# Altium footprint library QFN50P500X500X100-29N-D.PcbLib: 1 footprints
Each footprint in its own frame and in the unit in brackets; x right, y up, seen from the top. Pads: shape width x height; smd on the part's side, far side on the other; paste and mask are expansions set on the pad; w line width, h text height; cw(c..) or ccw(c..) is an arc to the next point about the centre after c.
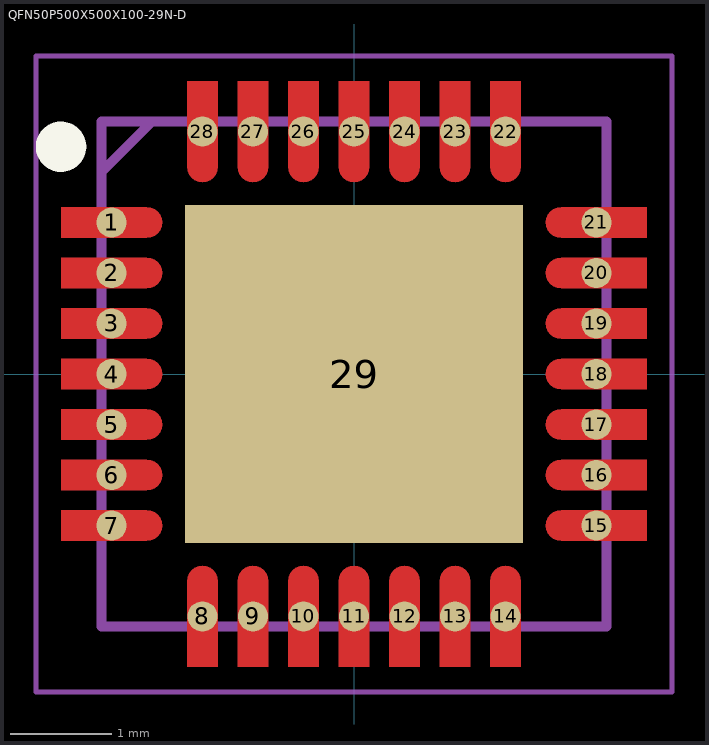
[diagram p0: the footprint, top view; thin cyan lines are the x and y axes]

## QFN50P500X500X100-29N-D [mm]
pads (29):
  round 0.3 smd: 1(-2.4,1.5) 2(-2.4,1) 3(-2.4,0.5) 4(-2.4,0) 5(-2.4,-0.5) 6(-2.4,-1) 7(-2.4,-1.5) 8(-1.5,-2.4) 9(-1,-2.4) 10(-0.5,-2.4) 11(0,-2.4) 12(0.5,-2.4) 13(1,-2.4) 14(1.5,-2.4) 15(2.4,-1.5) 16(2.4,-1) 17(2.4,-0.5) 18(2.4,0) 19(2.4,0.5) 20(2.4,1) 21(2.4,1.5) 22(1.5,2.4) 23(1,2.4) 24(0.5,2.4) 25(0,2.4) 26(-0.5,2.4) 27(-1,2.4) 28(-1.5,2.4)
  rrect0% 3.35x3.35 smd: 29(0,0)
Top Layer:
  region: -1.35,2.9 -1.349,2.05 -1.354,2.011 -1.369,1.974 -1.393,1.943 -1.424,1.919 -1.461,1.904 -1.5,1.899 -1.539,1.904 -1.576,1.919 -1.607,1.943 -1.631,1.974 -1.646,2.011 -1.651,2.05 -1.65,2.05 -1.65,2.9
  region: -0.85,2.9 -0.849,2.05 -0.854,2.011 -0.869,1.974 -0.893,1.943 -0.924,1.919 -0.961,1.904 -1,1.899 -1.039,1.904 -1.076,1.919 -1.107,1.943 -1.131,1.974 -1.146,2.011 -1.151,2.05 -1.15,2.05 -1.15,2.9
  region: -0.35,2.9 -0.349,2.05 -0.354,2.011 -0.369,1.974 -0.393,1.943 -0.424,1.919 -0.461,1.904 -0.5,1.899 -0.539,1.904 -0.576,1.919 -0.607,1.943 -0.631,1.974 -0.646,2.011 -0.651,2.05 -0.65,2.05 -0.65,2.9
  region: 0.15,2.9 0.151,2.05 0.146,2.011 0.131,1.974 0.107,1.943 0.076,1.919 0.039,1.904 0,1.899 -0.039,1.904 -0.076,1.919 -0.107,1.943 -0.131,1.974 -0.146,2.011 -0.151,2.05 -0.15,2.05 -0.15,2.9
  region: 0.65,2.9 0.651,2.05 0.646,2.011 0.631,1.974 0.607,1.943 0.576,1.919 0.539,1.904 0.5,1.899 0.461,1.904 0.424,1.919 0.393,1.943 0.369,1.974 0.354,2.011 0.349,2.05 0.35,2.05 0.35,2.9
  region: 1.15,2.9 1.151,2.05 1.146,2.011 1.131,1.974 1.107,1.943 1.076,1.919 1.039,1.904 1,1.899 0.961,1.904 0.924,1.919 0.893,1.943 0.869,1.974 0.854,2.011 0.849,2.05 0.85,2.05 0.85,2.9
  region: 1.65,2.9 1.651,2.05 1.646,2.011 1.631,1.974 1.607,1.943 1.576,1.919 1.539,1.904 1.5,1.899 1.461,1.904 1.424,1.919 1.393,1.943 1.369,1.974 1.354,2.011 1.349,2.05 1.35,2.05 1.35,2.9
  region: 2.9,1.35 2.05,1.349 2.011,1.354 1.974,1.369 1.943,1.393 1.919,1.424 1.904,1.461 1.899,1.5 1.904,1.539 1.919,1.576 1.943,1.607 1.974,1.631 2.011,1.646 2.05,1.651 2.05,1.65 2.9,1.65
  region: 2.9,0.85 2.05,0.849 2.011,0.854 1.974,0.869 1.943,0.893 1.919,0.924 1.904,0.961 1.899,1 1.904,1.039 1.919,1.076 1.943,1.107 1.974,1.131 2.011,1.146 2.05,1.151 2.05,1.15 2.9,1.15
  region: 2.9,0.35 2.05,0.349 2.011,0.354 1.974,0.369 1.943,0.393 1.919,0.424 1.904,0.461 1.899,0.5 1.904,0.539 1.919,0.576 1.943,0.607 1.974,0.631 2.011,0.646 2.05,0.651 2.05,0.65 2.9,0.65
  region: 2.9,-0.15 2.05,-0.151 2.011,-0.146 1.974,-0.131 1.943,-0.107 1.919,-0.076 1.904,-0.039 1.899,0 1.904,0.039 1.919,0.076 1.943,0.107 1.974,0.131 2.011,0.146 2.05,0.151 2.05,0.15 2.9,0.15
  region: 2.9,-0.65 2.05,-0.651 2.011,-0.646 1.974,-0.631 1.943,-0.607 1.919,-0.576 1.904,-0.539 1.899,-0.5 1.904,-0.461 1.919,-0.424 1.943,-0.393 1.974,-0.369 2.011,-0.354 2.05,-0.349 2.05,-0.35 2.9,-0.35
  region: 2.9,-1.15 2.05,-1.151 2.011,-1.146 1.974,-1.131 1.943,-1.107 1.919,-1.076 1.904,-1.039 1.899,-1 1.904,-0.961 1.919,-0.924 1.943,-0.893 1.974,-0.869 2.011,-0.854 2.05,-0.849 2.05,-0.85 2.9,-0.85
  region: 2.9,-1.65 2.05,-1.651 2.011,-1.646 1.974,-1.631 1.943,-1.607 1.919,-1.576 1.904,-1.539 1.899,-1.5 1.904,-1.461 1.919,-1.424 1.943,-1.393 1.974,-1.369 2.011,-1.354 2.05,-1.349 2.05,-1.35 2.9,-1.35
  region: 1.35,-2.9 1.349,-2.05 1.354,-2.011 1.369,-1.974 1.393,-1.943 1.424,-1.919 1.461,-1.904 1.5,-1.899 1.539,-1.904 1.576,-1.919 1.607,-1.943 1.631,-1.974 1.646,-2.011 1.651,-2.05 1.65,-2.05 1.65,-2.9
  region: 0.85,-2.9 0.849,-2.05 0.854,-2.011 0.869,-1.974 0.893,-1.943 0.924,-1.919 0.961,-1.904 1,-1.899 1.039,-1.904 1.076,-1.919 1.107,-1.943 1.131,-1.974 1.146,-2.011 1.151,-2.05 1.15,-2.05 1.15,-2.9
  region: 0.35,-2.9 0.349,-2.05 0.354,-2.011 0.369,-1.974 0.393,-1.943 0.424,-1.919 0.461,-1.904 0.5,-1.899 0.539,-1.904 0.576,-1.919 0.607,-1.943 0.631,-1.974 0.646,-2.011 0.651,-2.05 0.65,-2.05 0.65,-2.9
  region: -0.15,-2.9 -0.151,-2.05 -0.146,-2.011 -0.131,-1.974 -0.107,-1.943 -0.076,-1.919 -0.039,-1.904 0,-1.899 0.039,-1.904 0.076,-1.919 0.107,-1.943 0.131,-1.974 0.146,-2.011 0.151,-2.05 0.15,-2.05 0.15,-2.9
  region: -0.65,-2.9 -0.651,-2.05 -0.646,-2.011 -0.631,-1.974 -0.607,-1.943 -0.576,-1.919 -0.539,-1.904 -0.5,-1.899 -0.461,-1.904 -0.424,-1.919 -0.393,-1.943 -0.369,-1.974 -0.354,-2.011 -0.349,-2.05 -0.35,-2.05 -0.35,-2.9
  region: -1.15,-2.9 -1.151,-2.05 -1.146,-2.011 -1.131,-1.974 -1.107,-1.943 -1.076,-1.919 -1.039,-1.904 -1,-1.899 -0.961,-1.904 -0.924,-1.919 -0.893,-1.943 -0.869,-1.974 -0.854,-2.011 -0.849,-2.05 -0.85,-2.05 -0.85,-2.9
  region: -1.65,-2.9 -1.651,-2.05 -1.646,-2.011 -1.631,-1.974 -1.607,-1.943 -1.576,-1.919 -1.539,-1.904 -1.5,-1.899 -1.461,-1.904 -1.424,-1.919 -1.393,-1.943 -1.369,-1.974 -1.354,-2.011 -1.349,-2.05 -1.35,-2.05 -1.35,-2.9
  region: -2.9,-1.35 -2.05,-1.349 -2.011,-1.354 -1.974,-1.369 -1.943,-1.393 -1.919,-1.424 -1.904,-1.461 -1.899,-1.5 -1.904,-1.539 -1.919,-1.576 -1.943,-1.607 -1.974,-1.631 -2.011,-1.646 -2.05,-1.651 -2.05,-1.65 -2.9,-1.65
  region: -2.9,-0.85 -2.05,-0.849 -2.011,-0.854 -1.974,-0.869 -1.943,-0.893 -1.919,-0.924 -1.904,-0.961 -1.899,-1 -1.904,-1.039 -1.919,-1.076 -1.943,-1.107 -1.974,-1.131 -2.011,-1.146 -2.05,-1.151 -2.05,-1.15 -2.9,-1.15
  region: -2.9,-0.35 -2.05,-0.349 -2.011,-0.354 -1.974,-0.369 -1.943,-0.393 -1.919,-0.424 -1.904,-0.461 -1.899,-0.5 -1.904,-0.539 -1.919,-0.576 -1.943,-0.607 -1.974,-0.631 -2.011,-0.646 -2.05,-0.651 -2.05,-0.65 -2.9,-0.65
  region: -2.9,0.15 -2.05,0.151 -2.011,0.146 -1.974,0.131 -1.943,0.107 -1.919,0.076 -1.904,0.039 -1.899,0 -1.904,-0.039 -1.919,-0.076 -1.943,-0.107 -1.974,-0.131 -2.011,-0.146 -2.05,-0.151 -2.05,-0.15 -2.9,-0.15
  region: -2.9,0.65 -2.05,0.651 -2.011,0.646 -1.974,0.631 -1.943,0.607 -1.919,0.576 -1.904,0.539 -1.899,0.5 -1.904,0.461 -1.919,0.424 -1.943,0.393 -1.974,0.369 -2.011,0.354 -2.05,0.349 -2.05,0.35 -2.9,0.35
  region: -2.9,1.15 -2.05,1.151 -2.011,1.146 -1.974,1.131 -1.943,1.107 -1.919,1.076 -1.904,1.039 -1.899,1 -1.904,0.961 -1.919,0.924 -1.943,0.893 -1.974,0.869 -2.011,0.854 -2.05,0.849 -2.05,0.85 -2.9,0.85
  region: -2.9,1.65 -2.05,1.651 -2.011,1.646 -1.974,1.631 -1.943,1.607 -1.919,1.576 -1.904,1.539 -1.899,1.5 -1.904,1.461 -1.919,1.424 -1.943,1.393 -1.974,1.369 -2.011,1.354 -2.05,1.349 -2.05,1.35 -2.9,1.35
Top Overlay:
  circle w0.25: c-2.9,2.25 r0.125
Mechanical 15:
  lines w0.1: -2.5,2 -2,2.5 ; -2.5,-2.5 -2.5,2.5 2.5,2.5 2.5,-2.5 -2.5,-2.5
Mechanical 20:
  lines w0.05: -3.15,-3.15 -3.15,3.15 3.15,3.15 3.15,-3.15 -3.15,-3.15
3D body "CP2102-GMR.stp": height 1, standoff 0, extent -2.56,-2.54 2.54,2.56